# EAGLE library part 2-1586037-4 (library BMS Lbr)
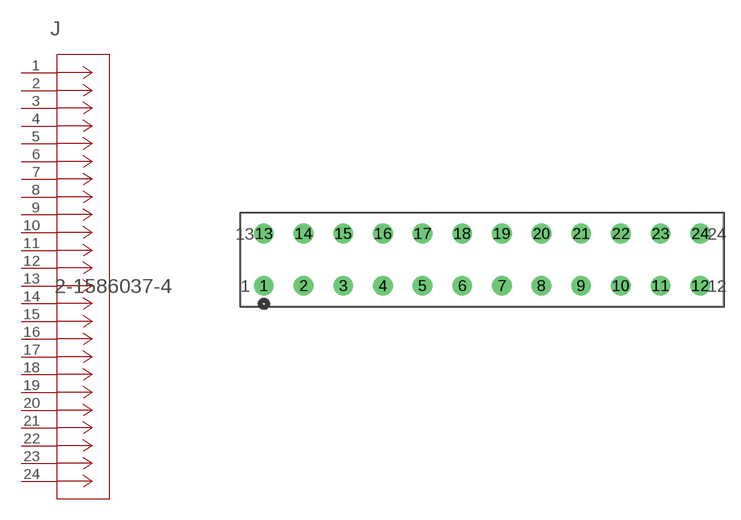
[diagram p9: symbol with the pads of CONN_2-1586037-4_TYCO; footprint CONN_2-1586037-4_TYCO]

Designator prefix J

## 2-1586037-4 (COPYRIGHT: Copyright (C) 2015 Accelerated Designs. All rights reserved; FAMILY: Power; MANUFACTURER_NAME: Tyco Electronics Amp; MANUFACTURER_PART_NUMBER: 2-1586037-4; RSPARTNUMBER: 4960186; SECTION: General Purpose; SUPERSECTION: Connectors; VENDOR: Tyco Electronics)  [CONN_2-1586037-4_TYCO]
1  1  pas
2  2  pas
3  3  pas
4  4  pas
5  5  pas
6  6  pas
7  7  pas
8  8  pas
9  9  pas
10  10  pas
11  11  pas
12  12  pas
13  13  pas
14  14  pas
15  15  pas
16  16  pas
17  17  pas
18  18  pas
19  19  pas
20  20  pas
21  21  pas
22  22  pas
23  23  pas
24  24  pas

## Footprint CONN_2-1586037-4_TYCO (pad centres in mm)
drill 1.397 pad 1.905: 1 -46.101,-5.512; 2 -41.91,-5.512; 3 -37.719,-5.512; 4 -33.528,-5.512; 5 -29.337,-5.512; 6 -25.146,-5.512; 7 -20.955,-5.512; 8 -16.764,-5.512; 9 -12.573,-5.512; 10 -8.382,-5.512; 11 -4.191,-5.512; 12 0,-5.512; 13 -46.101,0; 14 -41.91,0; 15 -37.719,0; 16 -33.528,0; 17 -29.337,0; 18 -25.146,0; 19 -20.955,0; 20 -16.764,0; 21 -12.573,0; 22 -8.382,0; 23 -4.191,0; 24 0,0